# EAGLE library part DS1804 (library ds1804)
MICROCONTROLLER 1 Kbytes ROM
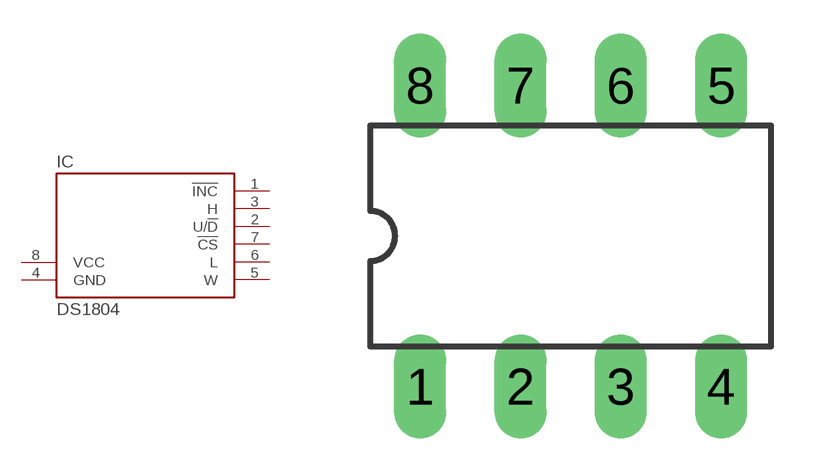
[diagram p0: symbol with the pads of DIL08; footprint DIL08]

Designator prefix IC

## DS1804P (OC_FARNELL: unknown; OC_NEWARK: unknown)  [DIL08]
1  !INC
2  U/!D
3  H
4  GND  pwr
5  W
6  L
7  !CS
8  VCC  pwr

## Footprint DIL08 (pad centres in mm)
Dual In Line
drill 0.813 long: 1 -3.81,-3.81; 2 -1.27,-3.81; 3 1.27,-3.81; 4 3.81,-3.81; 5 3.81,3.81; 6 1.27,3.81; 7 -1.27,3.81; 8 -3.81,3.81